# Altium footprint library SparkFun-PowerIC.PCBLIB: 69 footprints (part 2 of 5)
Each footprint in its own frame and in the unit in brackets; x right, y up, seen from the top. Pads: shape width x height; smd on the part's side, far side on the other; paste and mask are expansions set on the pad; w line width, h text height; cw(c..) or ccw(c..) is an arc to the next point about the centre after c.
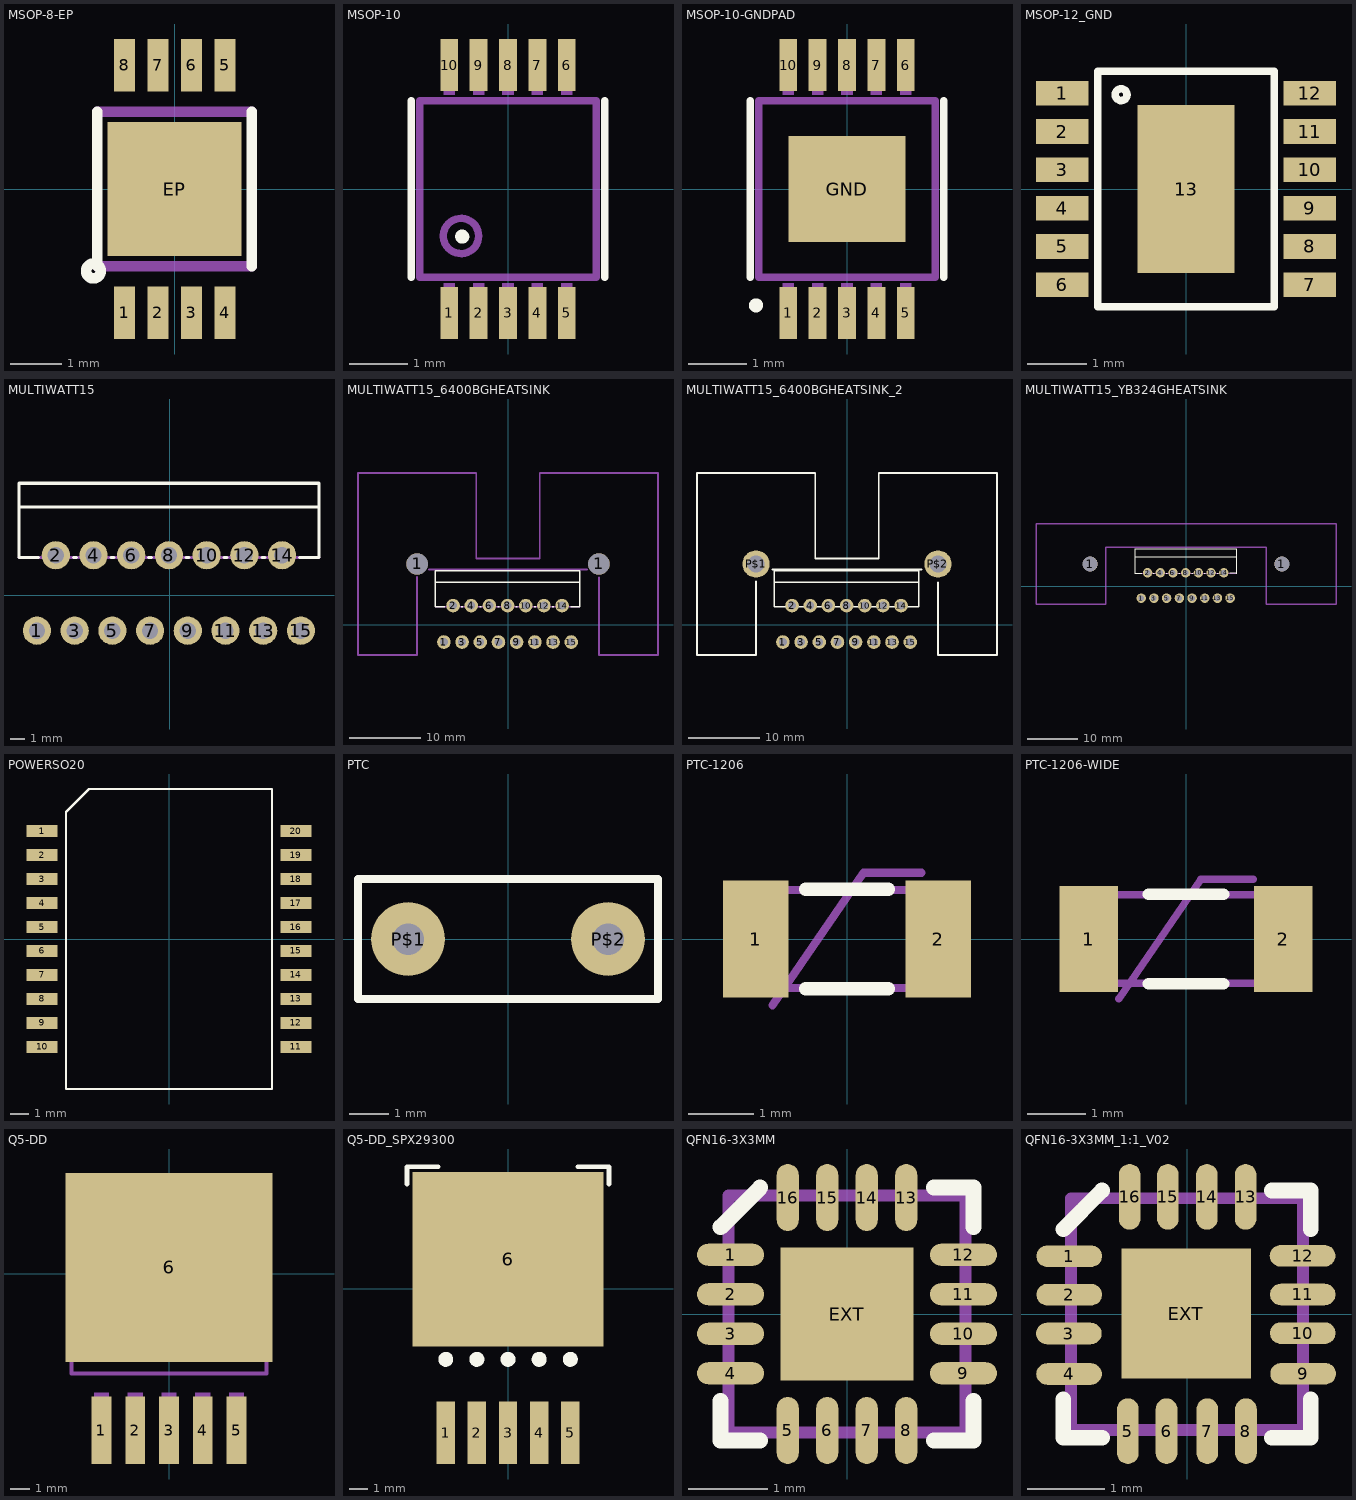
[diagram p1: the footprints below, top view; thin cyan lines are the x and y axes]

## MSOP-8-EP [mm]
pads (9):
  rect 0.41x1.02 smd: 1(-0.975,-2.4) 2(-0.325,-2.4) 3(0.325,-2.4) 4(0.975,-2.4) 5(0.975,2.4) 6(0.325,2.4) 7(-0.325,2.4) 8(-0.975,2.4)
  rect 2.6x2.6 smd: EP(0,0)
Top Overlay:
  circle w0.203: c-1.573,-1.591 r0.144
  lines w0.203: -1.5,-1.5 -1.5,1.5 ; 1.5,-1.5 1.5,1.5
Mechanical 16:
  lines w0.203: -1.5,-1.5 1.5,-1.5 ; -1.5,1.5 1.5,1.5

## MSOP-10 [mil]
pads (10):
  rect 12.01x35 smd: 1(-39.37,-83.05) 2(-19.69,-83.05) 3(0,-83.05) 4(19.69,-83.05) 5(39.37,-83.05) 6(39.37,83.05) 7(19.69,83.05) 8(0,83.05) 9(-19.69,83.05) 10(-39.37,83.05)
Top Overlay:
  circle w5: c-30.69,-31.94 r2.23
  lines w5: -64.99,-59.06 -64.99,59.06 ; 64.99,-59.06 64.99,59.06
Mechanical 16:
  circle w5: c-31.5,-31.5 r11.81
  rectangle: -43.31,62.99 -35.43,96.46
  rectangle: -23.62,62.99 -15.75,96.46
  rectangle: -3.94,62.99 3.94,96.46
  rectangle: 15.75,62.99 23.62,96.46
  rectangle: 35.43,62.99 43.31,96.46
  rectangle: -43.31,-96.46 -35.43,-62.99
  rectangle: -23.62,-96.46 -15.75,-62.99
  rectangle: -3.94,-96.46 3.94,-62.99
  rectangle: 15.75,-96.46 23.62,-62.99
  rectangle: 35.43,-96.46 43.31,-62.99
  lines w5: -59.06,-59.06 -59.06,59.06 59.06,59.06 59.06,-59.06 -59.06,-59.06

## MSOP-10-GNDPAD [mil]
pads (11):
  rect 12.01x35 smd: 1(-39.37,-83.05) 2(-19.69,-83.05) 3(0,-83.05) 4(19.69,-83.05) 5(39.37,-83.05) 6(39.37,83.05) 7(19.69,83.05) 8(0,83.05) 9(-19.69,83.05) 10(-39.37,83.05)
  rect 78.74x70.87 smd: GND(0,0)
Top Overlay:
  circle w5: c-61,-78 r2.23
  lines w5: -64.99,-59.06 -64.99,59.06 ; 64.99,-59.06 64.99,59.06
Top Paste:
  rectangle: -19.69,-19.69 19.69,19.69
Mechanical 16:
  rectangle: -43.31,62.99 -35.43,96.46
  rectangle: -23.62,62.99 -15.75,96.46
  rectangle: -3.94,62.99 3.94,96.46
  rectangle: 15.75,62.99 23.62,96.46
  rectangle: 35.43,62.99 43.31,96.46
  rectangle: -43.31,-96.46 -35.43,-62.99
  rectangle: -23.62,-96.46 -15.75,-62.99
  rectangle: -3.94,-96.46 3.94,-62.99
  rectangle: 15.75,-96.46 23.62,-62.99
  rectangle: 35.43,-96.46 43.31,-62.99
  lines w5: -59.06,-59.06 -59.06,59.06 59.06,59.06 59.06,-59.06 -59.06,-59.06

## MSOP-12_GND [mil]
pads (13):
  rect 35x16.54 smd: 1(-82.68,63.98) 2(-82.68,38.39) 3(-82.68,12.8) 4(-82.68,-12.8) 5(-82.68,-38.39) 6(-82.68,-63.98) 7(82.68,-63.98) 8(82.68,-38.39) 9(82.68,-12.8) 10(82.68,12.8) 11(82.68,38.39) 12(82.68,63.98)
  rect 65x112.01 smd: 13(0,0)
Top Overlay:
  circle w5: c-43.31,62.99 r3.94
  lines w5: -59.06,-78.74 -59.06,78.74 59.06,78.74 59.06,-78.74 -59.06,-78.74
Top Paste:
  rectangle: -27.56,7.87 -3.94,51.18
  rectangle: 3.94,7.87 27.56,51.18
  rectangle: 3.94,-51.18 27.56,-7.87
  rectangle: -27.56,-51.18 -3.94,-7.87

## MULTIWATT15 [mm]
pads (15):
  round 1.9 hole 1.1: 1(-8.95,-2.39) 2(-7.68,2.69) 3(-6.41,-2.39) 4(-5.14,2.69) 5(-3.87,-2.39) 6(-2.6,2.69) 7(-1.33,-2.39) 8(-0.06,2.69) 9(1.21,-2.39) 10(2.48,2.69) 11(3.75,-2.39) 12(5.02,2.69) 13(6.29,-2.39) 14(7.56,2.69) 15(8.83,-2.39)
Top Overlay:
  lines w0.203: -10.16,2.54 -10.16,5.94 ; -10.15,2.55 -8.85,2.55 ; -6.5,2.55 -6.3,2.55 ; -3.95,2.55 -3.75,2.55 ; -1.45,2.55 -1.25,2.55 ; 1.1,2.55 1.3,2.55 ; 3.65,2.55 3.85,2.55 ; 6.2,2.55 6.4,2.55 ; 8.75,2.55 10.05,2.55 ; 10.04,2.54 10.04,5.94 ; -10.16,5.94 -10.16,7.54 10.04,7.54 10.04,5.94 ; -10.16,5.94 10.04,5.94
Mechanical 16:
  lines w0.203: -10.16,2.54 10.04,2.54

## MULTIWATT15_6400BGHEATSINK [mil]
pads (17):
  round 118 hole 118: 1(-500,335) 1(500,335)
  round 74.8 hole 43.31: 1(-352.36,-94.09) 2(-302.36,105.91) 3(-252.36,-94.09) 4(-202.36,105.91) 5(-152.36,-94.09) 6(-102.36,105.91) 7(-52.36,-94.09) 8(-2.36,105.91) 9(47.64,-94.09) 10(97.64,105.91) 11(147.64,-94.09) 12(197.64,105.91) 13(247.64,-94.09) 14(297.64,105.91) 15(347.64,-94.09)
Top Overlay:
  lines w8: -400,100 -400,233.86 ; -399.61,100.39 -348.43,100.39 ; -255.91,100.39 -248.03,100.39 ; -155.51,100.39 -147.64,100.39 ; -57.09,100.39 -49.21,100.39 ; 43.31,100.39 51.18,100.39 ; 143.7,100.39 151.57,100.39 ; 244.09,100.39 251.97,100.39 ; 344.49,100.39 395.67,100.39 ; 395.28,100 395.28,233.86 ; -400,233.86 -400,296.85 395.28,296.85 395.28,233.86 ; -400,233.86 395.28,233.86
Mechanical 16:
  lines w8: -400,100 395.28,100
  lines w10: -500,265 -500,-165 -825,-165 -825,835 -175,835 -175,366 175,366 175,835 825,835 825,-165 500,-165 500,260 ; -435,304 435,304

## MULTIWATT15_6400BGHEATSINK_2 [mil]
pads (17):
  round 74.8 hole 43.31: 1(-352.36,-94.09) 2(-302.36,105.91) 3(-252.36,-94.09) 4(-202.36,105.91) 5(-152.36,-94.09) 6(-102.36,105.91) 7(-52.36,-94.09) 8(-2.36,105.91) 9(47.64,-94.09) 10(97.64,105.91) 11(147.64,-94.09) 12(197.64,105.91) 13(247.64,-94.09) 14(297.64,105.91) 15(347.64,-94.09)
  round 150 hole 95: P$1(-500,335) P$2(500,335)
Top Overlay:
  lines w8: -399.61,100.39 -348.43,100.39 ; -255.91,100.39 -248.03,100.39 ; -155.51,100.39 -147.64,100.39 ; -57.09,100.39 -49.21,100.39 ; 43.31,100.39 51.18,100.39 ; 143.7,100.39 151.57,100.39 ; 244.09,100.39 251.97,100.39 ; 344.49,100.39 395.67,100.39 ; -400,233.86 -400,100 395.28,100 395.28,233.86 ; -400,233.86 -400,296.85 395.28,296.85 395.28,233.86 ; -400,233.86 395.28,233.86
  lines w10: -500,240 -500,-165 -825,-165 -825,835 -175,835 -175,366 175,366 175,835 825,835 825,-165 500,-165 500,235 ; -410,304 410,304

## MULTIWATT15_YB324GHEATSINK [mil]
pads (17):
  round 118 hole 118: 1(-754,175) 1(754,175)
  round 74.8 hole 43.31: 1(-352.36,-94.09) 2(-302.36,105.91) 3(-252.36,-94.09) 4(-202.36,105.91) 5(-152.36,-94.09) 6(-102.36,105.91) 7(-52.36,-94.09) 8(-2.36,105.91) 9(47.64,-94.09) 10(97.64,105.91) 11(147.64,-94.09) 12(197.64,105.91) 13(247.64,-94.09) 14(297.64,105.91) 15(347.64,-94.09)
Top Overlay:
  lines w8: -400,100 -400,233.86 ; -399.61,100.39 -348.43,100.39 ; -255.91,100.39 -248.03,100.39 ; -155.51,100.39 -147.64,100.39 ; -57.09,100.39 -49.21,100.39 ; 43.31,100.39 51.18,100.39 ; 143.7,100.39 151.57,100.39 ; 244.09,100.39 251.97,100.39 ; 344.49,100.39 395.67,100.39 ; 395.28,100 395.28,233.86 ; -400,233.86 -400,296.85 395.28,296.85 395.28,233.86 ; -400,233.86 395.28,233.86
Mechanical 16:
  lines w8: -400,100 395.28,100
  lines w10: -1181,-140 -630,-140 -630,305 630,305 630,-140 1181,-140 1181,490 -1181,490 -1181,-140

## POWERSO20 [mil]
pads (20):
  rect 65x25 smd: 1(-265,225) 2(-265,175) 3(-265,125) 4(-265,75) 5(-265,25) 6(-265,-25) 7(-265,-75) 8(-265,-125) 9(-265,-175) 10(-265,-225) 11(265,-225) 12(265,-175) 13(265,-125) 14(265,-75) 15(265,-25) 16(265,25) 17(265,75) 18(265,125) 19(265,175) 20(265,225)
Top Overlay:
  lines w5: -215,-313 215,-313 215,313 -167,313 -215,265 -215,-313

## PTC [mil]
pads (2):
  round 74 hole 31.5: P$1(-100,0) P$2(100,0)
Top Overlay:
  lines w8: -150,-60 150,-60 150,60 -150,60 -150,-60

## PTC-1206 [mm]
pads (2):
  rect 1x1.8 smd: 1(-1.4,0) 2(1.4,0)
Top Overlay:
  lines w0.203: -0.635,-0.762 0.635,-0.762 ; -0.635,0.762 0.635,0.762
Mechanical 16:
  lines w0.127: -1.143,-1.016 0.254,1.016 1.143,1.016 ; -1.5,-0.75 1.5,-0.75 1.5,0.75 -1.5,0.75 -1.5,-0.75

## PTC-1206-WIDE [mm]
pads (2):
  rect 1x1.8 smd: 1(-1.654,0) 2(1.654,0)
Top Overlay:
  lines w0.203: -0.635,-0.762 0.635,-0.762 ; -0.635,0.762 0.635,0.762
Mechanical 16:
  lines w0.127: -1.143,-1.016 0.254,1.016 1.143,1.016 ; -1.5,-0.75 1.5,-0.75 1.5,0.75 -1.5,0.75 -1.5,-0.75

## Q5-DD [mm]
pads (6):
  rect 1x3.4 smd: 1(-3.4,-7.875) 2(-1.7,-7.875) 3(0,-7.875) 4(1.7,-7.875) 5(3.4,-7.875)
  rect 10.414x9.525 smd: 6(0,0.325)
Mechanical 16:
  circle w0.254: c0,-0.175 r1
  rectangle: -0.381,-8.768 0.381,-5.974
  rectangle: -3.781,-8.768 -3.019,-5.974
  rectangle: -2.081,-8.768 -1.319,-5.974
  rectangle: 1.319,-8.768 2.081,-5.974
  rectangle: 3.019,-8.768 3.781,-5.974
  region: 0,0 0.254,0 0.254,0.254 0,0.254
  lines w0.203: -4.917,-5.014 4.917,-5.014 4.917,3.99 -4.917,3.99 -4.917,-5.014

## Q5-DD_SPX29300 [mm]
pads (6):
  rect 1x3.4 smd: 1(-3.4,-7.875) 2(-1.7,-7.875) 3(0,-7.875) 4(1.7,-7.875) 5(3.4,-7.875)
  rect 10.414x9.525 smd: 6(0,1.595)
Top Overlay:
  circle w0.406: c-3.4,-3.861 r0.205
  circle w0.406: c-1.7,-3.861 r0.205
  circle w0.406: c0,-3.861 r0.205
  circle w0.406: c1.7,-3.861 r0.205
  circle w0.406: c3.4,-3.861 r0.205
  lines w0.254: -5.512,5.69 -5.512,6.655 -3.81,6.655 ; 3.81,6.655 5.512,6.655 5.512,5.69
Top Paste:
  rectangle: -3.81,2.54 -1.27,5.08
  rectangle: 1.27,2.54 3.81,5.08
  rectangle: 1.27,-2.54 3.81,0
  rectangle: -3.81,-2.54 -1.27,0

## QFN16-3X3MM [mm]
pads (17):
  rrect100% 0.85x0.28 smd: 1(-1.475,0.75) 2(-1.475,0.25) 3(-1.475,-0.25) 4(-1.475,-0.75) 9(1.475,-0.75) 10(1.475,-0.25) 11(1.475,0.25) 12(1.475,0.75)
  rrect100% 0.28x0.85 smd: 5(-0.75,-1.475) 6(-0.25,-1.475) 7(0.25,-1.475) 8(0.75,-1.475) 13(0.75,1.475) 14(0.25,1.475) 15(-0.25,1.475) 16(-0.75,1.475)
  rect 1.68x1.68 smd: EXT(0,0)
Top Overlay:
  lines w0.203: -1.6,-1.1 -1.6,-1.6 -1.1,-1.6 ; -1.6,1.1 -1.1,1.6 ; 1.1,-1.6 1.6,-1.6 1.6,-1.1 ; 1.1,1.6 1.6,1.6 1.6,1.1
Top Paste:
  rectangle: -0.6,0.15 -0.15,0.6
  rectangle: 0.15,0.15 0.6,0.6
  rectangle: 0.15,-0.6 0.6,-0.15
  rectangle: -0.6,-0.6 -0.15,-0.15
  lines w0.203: -1.8,-0.75 -1.15,-0.75 ; -1.8,-0.25 -1.15,-0.25 ; -1.8,0.25 -1.15,0.25 ; -1.8,0.75 -1.15,0.75 ; -0.75,-1.8 -0.75,-1.15 ; -0.75,1.15 -0.75,1.8 ; -0.25,-1.8 -0.25,-1.15 ; -0.25,1.15 -0.25,1.8 ; 0.25,-1.8 0.25,-1.15 ; 0.25,1.15 0.25,1.8 ; 0.75,-1.8 0.75,-1.15 ; 0.75,1.15 0.75,1.8 ; 1.15,-0.75 1.8,-0.75 ; 1.15,-0.25 1.8,-0.25 ; 1.15,0.25 1.8,0.25 ; 1.15,0.75 1.8,0.75
Mechanical 16:
  lines w0.152: -1.5,-1.5 -1.5,1.5 1.5,1.5 1.5,-1.5 -1.5,-1.5

## QFN16-3X3MM_1:1_V02 [mm]
pads (17):
  rrect100% 0.85x0.28 smd: 1(-1.524,0.75) 2(-1.524,0.252) 3(-1.529,-0.25) 4(-1.527,-0.774) 9(1.503,-0.77) 10(1.498,-0.245) 11(1.498,0.255) 12(1.495,0.755)
  rrect100% 0.28x0.85 smd: 5(-0.765,-1.513) 6(-0.265,-1.513) 7(0.263,-1.513) 8(0.763,-1.513) 13(0.758,1.518) 14(0.258,1.518) 15(-0.247,1.518) 16(-0.742,1.518)
  rect 1.68x1.68 smd: EXT(-0.009,0.008)
Top Overlay:
  lines w0.203: -1.6,-1.1 -1.6,-1.6 -1.1,-1.6 ; -1.6,1.1 -1.1,1.6 ; 1.1,-1.6 1.6,-1.6 1.6,-1.1 ; 1.1,1.6 1.6,1.6 1.6,1.1
Top Paste:
  rectangle: -0.6,0.15 -0.15,0.6
  rectangle: 0.15,0.15 0.6,0.6
  rectangle: 0.15,-0.6 0.6,-0.15
  rectangle: -0.6,-0.6 -0.15,-0.15
  lines w0.203: -1.853,-0.773 -1.203,-0.773 ; -1.853,-0.25 -1.203,-0.25 ; -1.851,0.252 -1.201,0.252 ; -1.85,0.751 -1.2,0.751 ; -0.765,-1.838 -0.765,-1.188 ; -0.742,1.193 -0.742,1.843 ; -0.265,-1.838 -0.265,-1.188 ; -0.247,1.196 -0.247,1.846 ; 0.258,1.196 0.258,1.846 ; 0.26,-1.838 0.26,-1.188 ; 0.758,1.193 0.758,1.843 ; 0.763,-1.841 0.763,-1.191 ; 1.17,-0.245 1.82,-0.245 ; 1.17,0.255 1.82,0.255 ; 1.173,0.755 1.818,0.755 ; 1.178,-0.768 1.828,-0.768
Mechanical 16:
  lines w0.152: -1.5,-1.5 -1.5,1.5 1.5,1.5 1.5,-1.5 -1.5,-1.5